# Altium footprint library PcbLib1.PcbLib: 4 footprints
Each footprint in its own frame and in the unit in brackets; x right, y up, seen from the top. Pads: shape width x height; smd on the part's side, far side on the other; paste and mask are expansions set on the pad; w line width, h text height; cw(c..) or ccw(c..) is an arc to the next point about the centre after c.
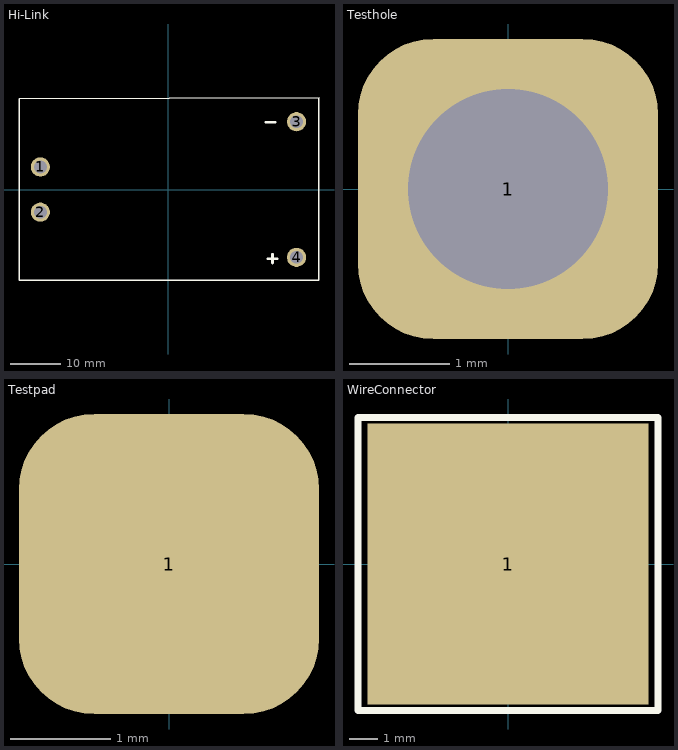
[diagram p0: the footprints below, top view; thin cyan lines are the x and y axes]

## Hi-Link [mm]
pads (4):
  round 3.81 hole 2.54 paste-2539.97: 1(-25.5,4.5) 2(-25.5,-4.5) 3(25.5,13.5) 4(25.5,-13.5)
Top Overlay:
  lines w0.254: 29.972,-18.072 -29.756,-18.072 -29.718,-18.034 -29.718,18.119 29.972,18.249 ; 29.972,-18.034 29.972,18.288
  lines w0.54: 19.431,13.424 21.209,13.424 ; 19.812,-13.754 21.59,-13.754 ; 20.701,-14.643 20.701,-12.865
3D body "HLK-20M05 v13.step": height 22.52, standoff -5, extent -28.601,-16.341 28.399,16.659

## Testhole [mm]
pads (1):
  rrect50% 3x3 hole 2: 1(0,0)

## Testpad [mm]
pads (1):
  rrect50% 3x3 smd: 1(0,0)

## WireConnector [mm]
pads (1):
  rect 10x10 smd: 1(0,0)
Top Overlay:
  lines w0.254: -5.334,-5.207 5.334,-5.207 5.334,5.207 -5.334,5.207 -5.334,-5.207